# Altium footprint library Pakage_lib.pcblib: 90 footprints (part 6 of 6)
Each footprint in its own frame and in the unit in brackets; x right, y up, seen from the top. Pads: shape width x height; smd on the part's side, far side on the other; paste and mask are expansions set on the pad; w line width, h text height; cw(c..) or ccw(c..) is an arc to the next point about the centre after c.
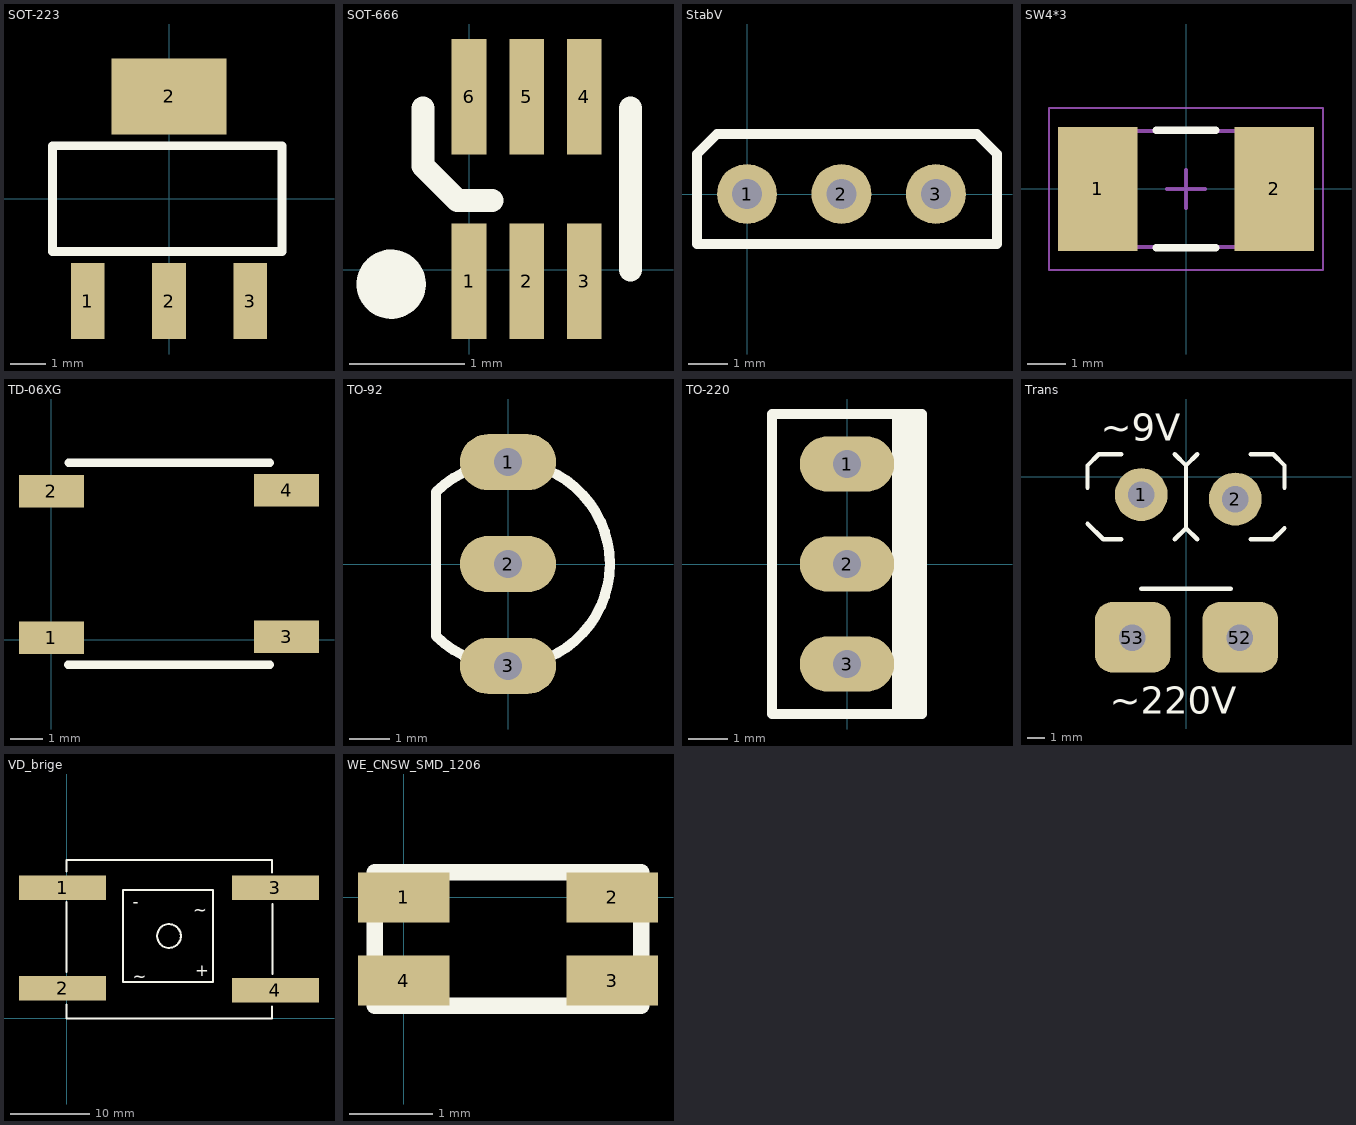
[diagram p5: the footprints below, top view; thin cyan lines are the x and y axes]

## SOT-223 [mm]
pads (4):
  rect 0.95x2.15 smd: 1(-2.3,-2.9) 2(0,-2.9) 3(2.3,-2.9)
  rect 3.25x2.15 smd: 2(0,2.9)
Top Overlay:
  lines w0.254: -3.3,-1.5 -3.3,1.5 3.2,1.5 3.2,-1.5 -3.3,-1.5
3D body "User Library-SOT223-3.STEP": height 1.7, standoff 0, extent -3.25,-3.5 3.25,3.5

## SOT-666 [mm]
pads (6):
  rect 0.3x1 smd: 1(0,-0.1) 2(0.5,-0.1) 3(1,-0.1) 4(1,1.5) 5(0.5,1.5) 6(0,1.5)
Top Overlay:
  circle w0.3: c-0.675,-0.125 r0.15
  lines w0.2: -0.4,1.4 -0.4,0.9 -0.1,0.6 0.2,0.6 ; 1.4,0 1.4,1.4
3D body "User Library-SOT50P160X60-6.STEP": height 0.6, standoff 0, extent -0.295,-0.1 1.295,1.5

## StabV [mil]
pads (3):
  round 60 hole 30: 1(0,0) 2(94.49,0) 3(188.98,0)
Top Overlay:
  lines w10: -50,-50 -50,40 -30,60 230,60 250,40 250,-50 -50,-50

## SW4*3 [mm]
height 1
pads (2):
  rect 2.05x3.2 smd: 1(-2.286,0) 2(2.286,0)
Top Overlay:
  lines w0.2: -0.762,-1.524 0.762,-1.524 ; -0.762,1.524 0.762,1.524
Mechanical 13:
  lines w0.1: -2.5,-1.5 2.5,-1.5 2.5,1.5 -2.5,1.5 -2.5,-1.5
Mechanical 15:
  lines w0.05: -3.55,-2.1 3.55,-2.1 3.55,2.1 -3.55,2.1 -3.55,-2.1
  lines w0.1: -0.5,0 0.5,0 ; 0,-0.5 0,0.5
3D body: height 1, standoff 0, extent 1.5,-1.5 2.5,1.5
3D body: height 1, standoff 0, extent -2.5,-1.5 -1.5,1.5
3D body: height 1, standoff 0, extent -1.5,-1.5 1.5,1.5

## TD-06XG [mm]
pads (4):
  rect 2x1 smd: 1(0,0.072) 2(0,4.572) 3(7.234,0.104) 4(7.234,4.604)
Top Overlay:
  lines w0.254: 0.508,-0.762 6.726,-0.762 ; 0.526,5.451 6.726,5.451

## TO-92 [mm]
pads (3):
  oval 2.4x1.4 hole 0.7: 1(0,2.54) 2(0,0) 3(0,-2.54)
Top Overlay:
  lines w0.254: -1.796,-1.796 ccw(c0,0) -1.796,1.796 -1.796,-1.796

## TO-220 [mm]
pads (3):
  oval 2.4x1.4 hole 0.7: 1(0,2.54) 2(0,0) 3(0,-2.54)
Top Overlay:
  rectangle: 1.27,-3.81 1.905,3.81
  lines w0.254: 1.27,-3.81 1.27,3.81 ; -1.905,-3.81 1.905,-3.81 1.905,-1.905 1.905,1.905 1.905,3.81 -1.905,3.81 -1.905,-3.81

## Trans [mm]
pads (4):
  round 3 hole 1.5: 1(-2.54,-1.016) 2(2.794,-1.27)
  rrect50% 4.3x4 hole 1.5 copper offset 0.032,0.032: 52(3.048,-9.144) 53(-3.048,-9.144)
Top Overlay:
  lines w0.254: -5.588,-2.667 -4.699,-3.556 -3.683,-3.556 ; -5.588,-0.635 -5.588,0.635 -4.953,1.27 -3.683,1.27 ; -2.54,-6.35 2.54,-6.35 ; -0.635,-3.556 0,-2.921 ; -0.635,1.27 0,0.635 ; 0.635,-3.556 0,-2.921 ; 0.635,1.27 0,0.635 ; 3.683,-3.556 4.953,-3.556 5.588,-2.921 ; 3.683,1.27 4.953,1.27 5.588,0.635 5.588,-0.635 ; 0,-2.921 0,-2.603 0,0.318 0,0.635
  text "~9V" at -4.826,2.032 h1.52
  text "~220V" at -4.318,-13.462 h1.52

## VD_brige [mm]
pads (4):
  rect 11x3.1 smd: 1(-0.508,16.51) 2(-0.508,3.81) 3(26.416,16.51) 4(26.416,3.556)
Top Overlay:
  circle w0.254: c12.954,10.414 r1.5
  lines w0.254: 0,1.778 0,0 26,0 26,1.524 ; 0,5.842 0,14.732 ; 0,18.542 0,20 26,20 26,18.465 25.997,18.462 ; 18.542,16.002 18.542,16.256 ; 26.045,14.462 26.055,5.588 ; 18.542,16.256 18.542,4.572 7.112,4.572 7.112,16.256 18.542,16.256
  text "~" at 8.382,4.572 h1.52
  text "~" at 16.002,12.954 h1.52
  text "-" at 8.382,13.97 h1.52
  text "+" at 16.256,5.334 h1.52

## WE_CNSW_SMD_1206 [mm] "WE-CNSW SMD 1206 Common Mode Line Filter 744232222"
pads (4):
  rect 1.1x0.6 smd: 1(0,0) 2(2.5,0) 3(2.5,-1) 4(0,-1)
Top Overlay:
  lines w0.2: -0.35,-1.3 2.85,-1.3 2.85,0.3 -0.35,0.3 -0.35,-1.3
3D body "WE-CNSW_1206_CNSW.stp": height 1.9, standoff 0, extent -0.35,-1.3 2.85,0.3